# Altium schematic symbol library DO - Diodes - Rectifiers - Single (Schottky).SchLib: 2 symbols
Pins are listed as number, name and electrical type; pins without a type are passive.

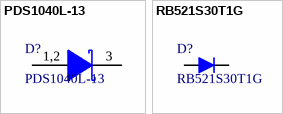
[diagram p0: symbols PDS1040L-13 to RB521S30T1G]

## PDS1040L-13
designator D?
DIODE SCHOTTKY 40V 10A POWERDI5; Manufacturer: Diodes Incorporated; Voltage - Forward (Vf) (Max) @ If: 490mV @ 10A; Speed: Fast Recovery =< 500ns, > 200mA (Io); Current - Reverse Leakage @ Vr: 600µA @ 40V; Configuration: Single Dual Anode; Type: Schottky Barrier Rectifier; Ifsm - Forward Surge Current: 275 A; Ir - Reverse Current: 600 uA; Vf - Forward Voltage: 0.49 V; Supplier 1: Digi-Key; Manufacturer Part Number: PDS1040L-13; RoHS: RoHS Compliant; Category: Discrete Semiconductor Products; Stock 1: 10398; Pricing 1: 1=1.19, 10=1.063, 100=0.8292, 500=0.68496, 1000=0.54075 (USD); Packaging: Cut Tape (CT); Part Status: Active; Diode Type: Schottky; Voltage - DC Reverse (Vr) (Max): 40V; Current - Average Rectified (Io): 10A; Reverse Recovery Time (trr): -; Capacitance @ Vr, F: -; Mounting Type: Surface Mount; Package / Case: PowerDI™ 5; Supplier Device Package: PowerDI™ 5; Operating Temperature - Junction: -65°C ~ 150°C; ComponentLink1URL: http://www.diodes.com/_files/datasheets/ds30486.pdf; ComponentLink1Description: http://www.diodes.com/_files/datasheets/ds30486.pdf; Supplier 2: Mouser; Stock 2: 6289; Pricing 2: 1=1.14, 10=0.980, 100=0.753, 500=0.665, 1000=0.525, 2500=0.464, 5000=0.455, 10000=0.447, 25000=0.419 (USD); Height: 1.15 mm; Length: 4.05 mm; Operating Temperature Range: - 65 C to + 150 C; Product: Schottky Diodes; Series: PDS1040; Technology: Si; Termination Style: SMD/SMT; Width: 5.45 mm; Brand: Diodes Incorporated; Mounting Style: SMD/SMT; If - Forward Current: 10 A; Maximum Operating Temperature: + 150 C; Minimum Operating Temperature: - 65 C; Standard Pack Qty: 5000; Vrrm - Repetitive Reverse Voltage: 40 V; RoHS - Mouser: E; Minimum Order Quantity: 1; Reeling: True; ComponentLink2URL: http://www.mouser.com/ds/2/115/ds30486-62126.pdf; ComponentLink2Description: http://www.mouser.com/ds/2/115/ds30486-62126.pdf; Supplier Part Number 1: PDS1040LDICT-ND; Supplier Part Number 2: 621-PDS1040L-13
footprint SOD Powerdi5 (Diodes Inc recommended land pattern, ap02001.pdf rev 60)
pins: 1 A, 2 A, 3 K
text: 1,2

## RB521S30T1G
designator D?
DIODE SCHOTTKY 30V 200MA SOD523; Manufacturer: ON Semiconductor; Current - Average Rectified (Io): 200mA (DC); Voltage - Forward (Vf) (Max) @ If: 500mV @ 200mA; Speed: Small Signal =< 200mA (Io), Any Speed; Current - Reverse Leakage @ Vr: 30µA @ 10V; Supplier 1: Digi-Key; Supplier Part Number 1: RB521S30T1GOSCT-ND; Manufacturer Part Number: RB521S30T1G; RoHS: RoHS Compliant; Category: Discrete Semiconductor Products; Stock 1: 172098; Pricing 1: 1=0.21, 10=0.189, 100=0.1029, 500=0.0633, 1000=0.04316 (USD); Packaging: Cut Tape (CT); Part Status: Active; Diode Type: Schottky; Voltage - DC Reverse (Vr) (Max): 30V; Reverse Recovery Time (trr): -; Capacitance @ Vr, F: -; Mounting Type: Surface Mount; Supplier Device Package: SOD-523; Operating Temperature - Junction: -55°C ~ 125°C; ComponentLink1URL: http://www.onsemi.com/pub_link/Collateral/RB521S30T1-D.PDF; ComponentLink1Description: http://www.onsemi.com/pub_link/Collateral/RB521S30T1-D.PDF; Package: SC-79, SOD-523
footprint SOD-523 (SC-79, SOD-523)
pins: 1 A, 2 K